# Altium footprint library station_de_charge_PcbLib.PcbLib: 38 footprints (part 3 of 3)
Each footprint in its own frame and in the unit in brackets; x right, y up, seen from the top. Pads: shape width x height; smd on the part's side, far side on the other; paste and mask are expansions set on the pad; w line width, h text height; cw(c..) or ccw(c..) is an arc to the next point about the centre after c.
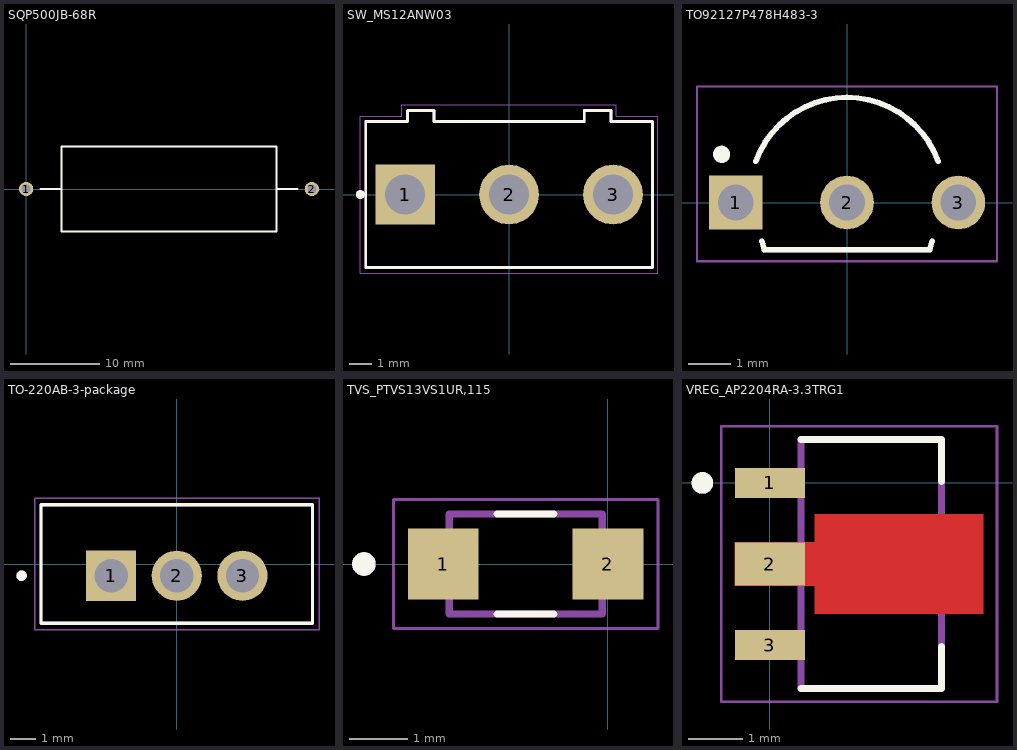
[diagram p2: the footprints below, top view; thin cyan lines are the x and y axes]

## SQP500JB-68R [mm]
pads (2):
  round 1.6 hole 1: 1(0,0) 2(32,0)
Top Overlay:
  lines w0.2: 1.6,0 3.975,0 ; 28.025,0 30.4,0 ; 3.975,0 3.975,-4.75 28.025,-4.75 28.025,4.75 3.975,4.75 3.975,0

## SW_MS12ANW03 [mm]
pads (3):
  rect 2.7x2.7 hole 1.8: 1(-4.7,0)
  round 2.7 hole 1.8: 2(0,0) 3(4.7,0)
Top Overlay:
  circle w0.2: c-6.731,0 r0.1
  lines w0.127: -6.477,-3.3 -6.477,3.3 -4.6,3.3 -4.6,3.8 -3.4,3.8 -3.4,3.3 3.4,3.3 3.4,3.8 4.6,3.8 4.6,3.3 6.477,3.3 6.477,-3.3 -6.477,-3.3
Mechanical 13:
  circle w0.2: c-6.731,0 r0.1
  lines w0.127: -6.477,-3.3 -6.477,3.3 -4.6,3.3 -4.6,3.8 -3.4,3.8 -3.4,3.3 3.4,3.3 3.4,3.8 4.6,3.8 4.6,3.3 6.477,3.3 6.477,-3.3 -6.477,-3.3
Mechanical 15:
  lines w0.05: -6.731,-3.55 -6.731,3.55 -4.85,3.55 -4.85,4.05 4.85,4.05 4.85,3.55 6.731,3.55 6.731,-3.55 -6.731,-3.55

## TO92127P478H483-3 [mm]
pads (3):
  rect 1.25x1.25 hole 0.83: 1(-2.6,0)
  round 1.25 hole 0.83: 2(0,0) 3(2.6,0)
Top Overlay:
  circle w0.2: c-2.925,1.125 r0.1
  lines w0.127: -2.126,0.964 cw(c0,0.19) 2.126,0.964 ; -1.984,-0.9 -1.933,-1.105 1.933,-1.105 1.984,-0.9
Mechanical 13:
  circle w0.2: c-3.013,0 r0.1
  lines w0.127: -2.126,0.964 cw(c0,0.19) 2.126,0.964 ; -1.985,-0.9 -1.933,-1.105 1.933,-1.105 1.985,-0.9
Mechanical 15:
  lines w0.05: -3.5,-1.37 3.5,-1.37 3.5,2.703 -3.5,2.703 -3.5,-1.37
3D body "step_temp.STEP": height 5.33, standoff -12.18, extent -2.38,-1.43 2.38,2.19

## TO-220AB-3-package [mm]
height 20.2
pads (3):
  rect 1.94x1.94 hole 1.29: 1(-2.54,-0.453)
  round 1.94 hole 1.29: 2(0,-0.453) 3(2.54,-0.453)
Top Overlay:
  circle w0.2: c-6,-0.453 r0.1
  lines w0.127: -5.25,-2.295 -5.25,2.295 5.25,2.295 5.25,-2.295 -5.25,-2.295
Mechanical 13:
  circle w0.2: c-6,-0.453 r0.1
  lines w0.127: -5.25,-2.295 -5.25,2.295 5.25,2.295 5.25,-2.295 -5.25,-2.295
Mechanical 15:
  lines w0.05: -5.5,-2.545 -5.5,2.545 5.5,2.545 5.5,-2.545 -5.5,-2.545
3D body "step_temp.STEP": height 20.2, standoff -10.59, extent -5.25,-2.295 5.25,2.295

## TVS_PTVS13VS1UR,115 [mm]
pads (2):
  rect 1.2x1.2 smd paste-0.05: 1(-2.8,0) 2(0,0)
Top Overlay:
  circle w0.2: c-4.15,0 r0.1
  lines w0.127: -1.88,-0.85 -0.92,-0.85 ; -1.88,0.85 -0.92,0.85
Mechanical 13:
  circle w0.2: c-4.15,0 r0.1
  lines w0.127: -2.7,-0.85 -2.7,0.85 -0.1,0.85 -0.1,-0.85 -2.7,-0.85
Mechanical 15:
  lines w0.05: -3.65,-1.1 -3.65,1.1 0.85,1.1 0.85,-1.1 -3.65,-1.1
3D body "step_temp.STEP": height 1.1, standoff 0, extent -3.15,-0.85 0.35,0.85

## VREG_AP2204RA-3.3TRG1 [mm]
pads (3):
  rect 1.3x0.55 smd: 1(0,0) 3(0,-3)
  rect 1.3x0.8 smd: 2(0,-1.5)
Top Layer:
  region: 3.95,-2.425 0.825,-2.425 0.825,-1.9 -0.65,-1.9 -0.65,-1.1 0.825,-1.1 0.825,-0.575 3.95,-0.575
Top Overlay:
  circle w0.2: c-1.25,0 r0.1
  lines w0.127: 0.575,-3.8 3.175,-3.8 3.175,-3.024 ; 0.575,0.8 3.175,0.8 3.175,0.024
Top Paste:
  region: 3.157,-2.6 1.617,-2.6 1.617,-0.4 3.157,-0.4
Top Solder:
  region: 4.05,-2.525 0.725,-2.525 0.725,-0.475 4.05,-0.475
Mechanical 13:
  circle w0.2: c-1.25,0 r0.1
  lines w0.127: 0.575,-3.8 3.175,-3.8 3.175,0.8 0.575,0.8 0.575,-3.8
Mechanical 15:
  lines w0.05: -0.9,-4.05 4.2,-4.05 4.2,1.05 -0.9,1.05 -0.9,-4.05